# EAGLE library part LCD_800X480 (library Tactile_Joy)
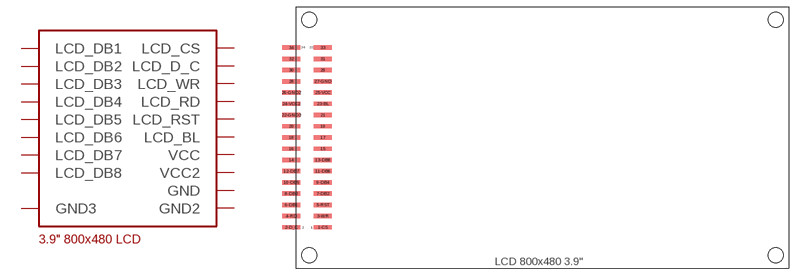
[diagram p1: symbol with the pads of LCD_800X480; footprint LCD_800X480]

Designator prefix -

## LCD_800X480  [LCD_800X480]
1-CS  LCD_CS
2-D_C  LCD_D_C
3-WR  LCD_WR
4-RD  LCD_RD
5-RST  LCD_RST
6-DB1  LCD_DB1
7-DB2  LCD_DB2
8-DB3  LCD_DB3
9-DB4  LCD_DB4
10-DB5  LCD_DB5
11-DB6  LCD_DB6
12-DB7  LCD_DB7
13-DB8  LCD_DB8
22-GND3  GND3  pwr
23-BL  LCD_BL
24-VCC2  VCC2  pwr
25-VCC  VCC  pwr
26-GND2  GND2  pwr
27-GND  GND  pwr

## Footprint LCD_800X480 (pad centres in mm)
smd 4.14 x 0.991: 1-CS 4.839,-20.32; 2-D_C -2.299,-20.32; 3-WR 4.839,-17.78; 4-RD -2.299,-17.78; 5-RST 4.839,-15.24; 6-DB1 -2.299,-15.24; 7-DB2 4.839,-12.7; 8-DB3 -2.299,-12.7; 9-DB4 4.839,-10.16; 10-DB5 -2.299,-10.16; 11-DB6 4.839,-7.62; 12-DB7 -2.299,-7.62; 13-DB8 4.839,-5.08; 14 -2.299,-5.08; 15 4.839,-2.54; 16 -2.299,-2.54; 17 4.839,0; 18 -2.299,0; 19 4.839,2.54; 20 -2.299,2.54; 21 4.839,5.08; 22-GND3 -2.299,5.08; 23-BL 4.839,7.62; 24-VCC2 -2.299,7.62; 25-VCC 4.839,10.16; 26-GND2 -2.299,10.16; 27-GND 4.839,12.7; 28 -2.299,12.7; 29 4.839,15.24; 30 -2.299,15.24; 31 4.839,17.78; 32 -2.299,17.78; 33 4.839,20.32; 34 -2.299,20.32
hole 3.4 at 1.73,-26.59
hole 3.4 at 1.73,26.59
hole 3.4 at 107.24,-26.59
hole 3.4 at 107.24,26.59